# Altium footprint library MP20045DQ.PcbLib: 1 footprints
Each footprint in its own frame and in the unit in brackets; x right, y up, seen from the top. Pads: shape width x height; smd on the part's side, far side on the other; paste and mask are expansions set on the pad; w line width, h text height; cw(c..) or ccw(c..) is an arc to the next point about the centre after c.
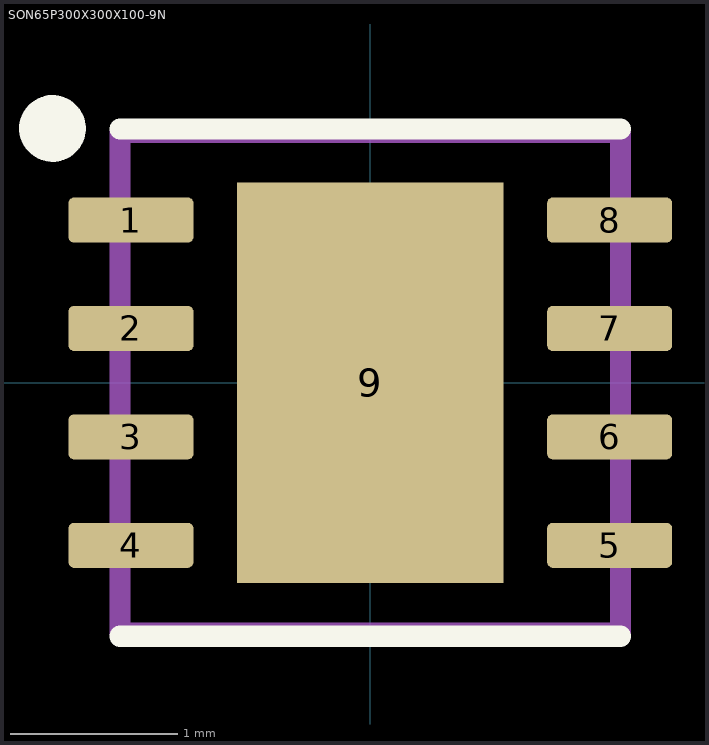
[diagram p0: the footprint, top view; thin cyan lines are the x and y axes]

## SON65P300X300X100-9N [mm]
pads (9):
  rrect25% 0.75x0.27 smd: 1(-1.435,0.975) 2(-1.435,0.325) 3(-1.435,-0.325) 4(-1.435,-0.975) 5(1.435,-0.975) 6(1.435,-0.325) 7(1.435,0.325) 8(1.435,0.975)
  rect 1.6x2.4 smd paste-2: 9(0,0)
Top Overlay:
  circle w0.2: c-1.905,1.524 r0.1
  lines w0.127: -1.5,-1.52 1.5,-1.52 ; -1.5,1.52 1.5,1.52
Top Paste:
  region: 0.51,-0.76 -0.51,-0.76 -0.51,0.76 0.51,0.76
Mechanical 13:
  lines w0.127: -1.5,-1.5 1.5,-1.5 1.5,1.5 -1.5,1.5 -1.5,-1.5
3D body "QFN-8_MP20051_MNP.step": height 0.94, standoff 0, extent -1.549,-1.549 1.549,1.549